# Altium footprint library PCB - FUSE - FUSE 0402_1005 0.51MM.PcbLib: 1 footprints
Each footprint in its own frame and in the unit in brackets; x right, y up, seen from the top. Pads: shape width x height; smd on the part's side, far side on the other; paste and mask are expansions set on the pad; w line width, h text height; cw(c..) or ccw(c..) is an arc to the next point about the centre after c.
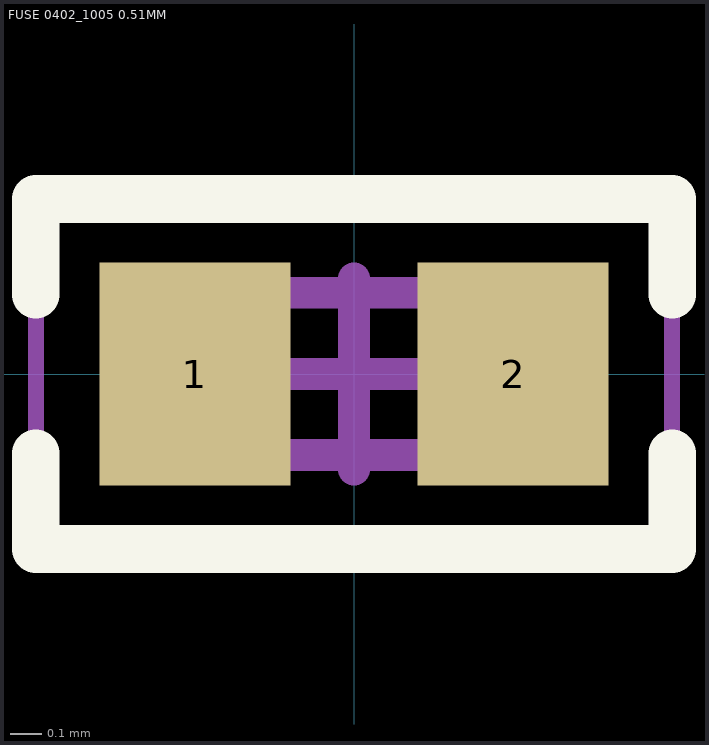
[diagram p0: the footprint, top view; thin cyan lines are the x and y axes]

## FUSE 0402_1005 0.51MM [mm] "Chip Fuse 1A AC 24V DC, 2 Leads, Body 1.00x0.51mm"
height 0.61
pads (2):
  rect 0.6x0.7 smd: 1(-0.5,0) 2(0.5,0)
Top Overlay:
  lines w0.15: -1,-0.25 -1,-0.55 1,-0.55 1,-0.25 ; -1,0.25 -1,0.55 1,0.55 1,0.25
Mechanical 13:
  lines w0.1: -0.5,-0.255 -0.5,0.255 0.5,0.255 0.5,-0.255 -0.5,-0.255
Mechanical 15:
  lines w0.05: -1,-0.55 -1,0.55 1,0.55 1,-0.55 -1,-0.55
  lines w0.1: -0.3,0 0,0 ; 0,-0.3 0,0 ; 0,0.3 0,0 ; 0.3,0 0,0
3D body "FUSE 0402_1005 0.51MM.step": height 0.61, standoff 0, extent -0.5,-0.255 0.5,0.255